# EAGLE library part ORG1411-PM01 (library GPS)
Origin GPS module 10-smd w pad
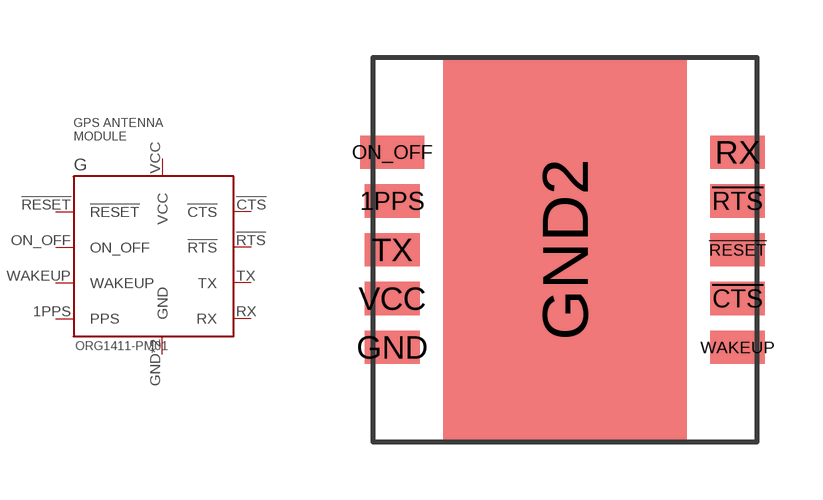
[diagram p0: symbol with the pads of ORG1411-10SMD; footprint ORG1411-10SMD]

Designator prefix G

## ORG1411-PM01 (DIGIKEY: ORG1411-PM01)  [ORG1411-10SMD]
1PPS  PPS
!CTS  !CTS
!RESET  !RESET
!RTS  !RTS
GND  GND
GND2  GND
ON_OFF  ON_OFF
RX  RX
TX  TX
VCC  VCC
WAKEUP  WAKEUP

## Footprint ORG1411-10SMD (pad centres in mm)
smd 1.422 x 0.864: 1PPS -4.496,1.27; !CTS 4.496,-1.27; !RESET 4.496,0; !RTS 4.496,1.27; GND -4.496,-2.54; RX 4.496,2.54; TX -4.496,0; VCC -4.496,-1.27; WAKEUP 4.496,-2.54
smd 6.35 x 10.008: GND2 0,0
smd 1.676 x 0.864: ON_OFF -4.496,2.54